# Altium integrated library CLA1B-MKW-XD0E0E73.IntLib: 1 symbol
Pins are listed as number, name and electrical type; pins without a type are passive.

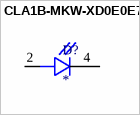
[diagram p0: symbol CLA1B-MKW-XD0E0E73]

## CLA1B-MKW-XD0E0E73
designator D?
Led, Plcc4, Cool White, 304mw, 9.6lm; MP: CLA1B-MKW-XD0E0E73; Package: None; Price: None; Value: *; Availability: Unavailable
footprint SOJ150P350X210-4N
pins: 2 A, 4 C